# EAGLE library part MAX3206 (library cTechnologies_integratedCircuits)
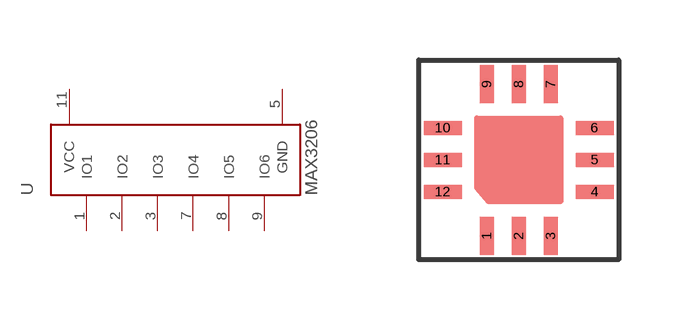
[diagram p10: symbol with the pads of TQFN12-4X4; footprint TQFN12-4X4]

Designator prefix U

## MAX3206  [TQFN12-4X4]
1  IO1
2  IO2
3  IO3
5  GND
7  IO4
8  IO5
9  IO6
11  VCC

## Footprint TQFN12-4X4 (pad centres in mm)
smd 0.35 x 0.95: 1 -0.8,-1.9; 2 0,-1.9; 3 0.8,-1.9; 7 0.8,1.9; 8 0,1.9; 9 -0.8,1.9
smd 0.95 x 0.35: 4 1.9,-0.8; 5 1.9,0; 6 1.9,0.8; 10 -1.9,0.8; 11 -1.9,0; 12 -1.9,-0.8